# EAGLE library part 74LVCH1T45GW,125 (library 74LVCH1T45GW_125)
74LVC1T45; 74LVCH1T45 - Dual supply translating transceiver; 3-state@en-us Source: Datasheet <https://assets.nexperia.com/documents/data-sheet/74LVC_LVCH1T45.pdf>
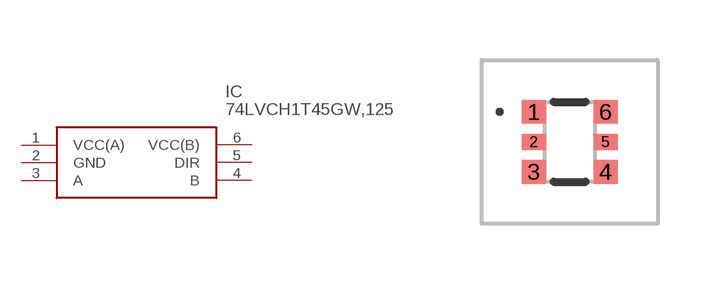
[diagram p0: symbol with the pads of 74LVCH1T45GW125; footprint 74LVCH1T45GW125]

Designator prefix IC

## 74LVCH1T45GW,125 (Description: 74LVC1T45; 74LVCH1T45 - Dual supply translating transceiver; 3-state@en-us; Height: 1.1mm; Manufacturer_Name: Nexperia; Manufacturer_Part_Number: 74LVCH1T45GW,125; Mouser_Part_Number: 771-74LVCH1T45GW125; Mouser_Price-Stock: https://www.mouser.co.uk/ProductDetail/Nexperia/74LVCH1T45GW125?qs=jquClx72t9DcZPG2mG4TEQ%3D%3D)  [74LVCH1T45GW125]
1  VCC(A)
2  GND
3  A
4  B
5  DIR
6  VCC(B)

## Footprint 74LVCH1T45GW125 (pad centres in mm)
74LVCH1T45GW,125
smd 0.6 x 0.6: 1 -0.9,0.75; 3 -0.9,-0.75; 4 0.9,-0.75; 6 0.9,0.75
smd 0.6 x 0.4: 2 -0.9,0; 5 0.9,0